# EAGLE library part LED-TRICOLOR-5050 (library PixelHeart)
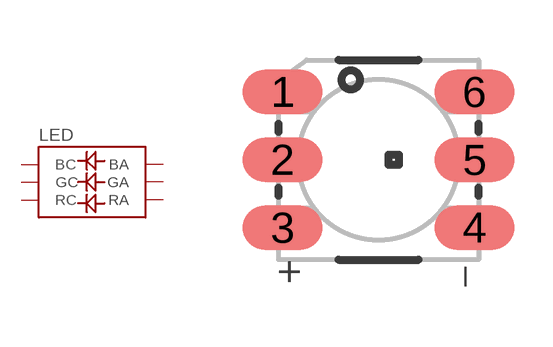
[diagram p1: symbol with the pads of LED-TRICOLOR-5050; footprint LED-TRICOLOR-5050]

Designator prefix LED

## LED-TRICOLOR-5050NO_IC  [LED-TRICOLOR-5050]
1  GA
2  RA
3  BA
4  BC
5  RC
6  GC

## Footprint LED-TRICOLOR-5050 (pad centres in mm)
5050 SMD RGB LED 5.0mm x 5.0mm, 2.6mm thickness
smd 2 x 1.1: 1 -2.4,1.7; 2 -2.4,0; 3 -2.4,-1.7; 4 2.4,-1.7; 5 2.4,0; 6 2.4,1.7